# Altium integrated library Xilinx Spartan-3A.IntLib: 90 symbols (part 47 of 55)
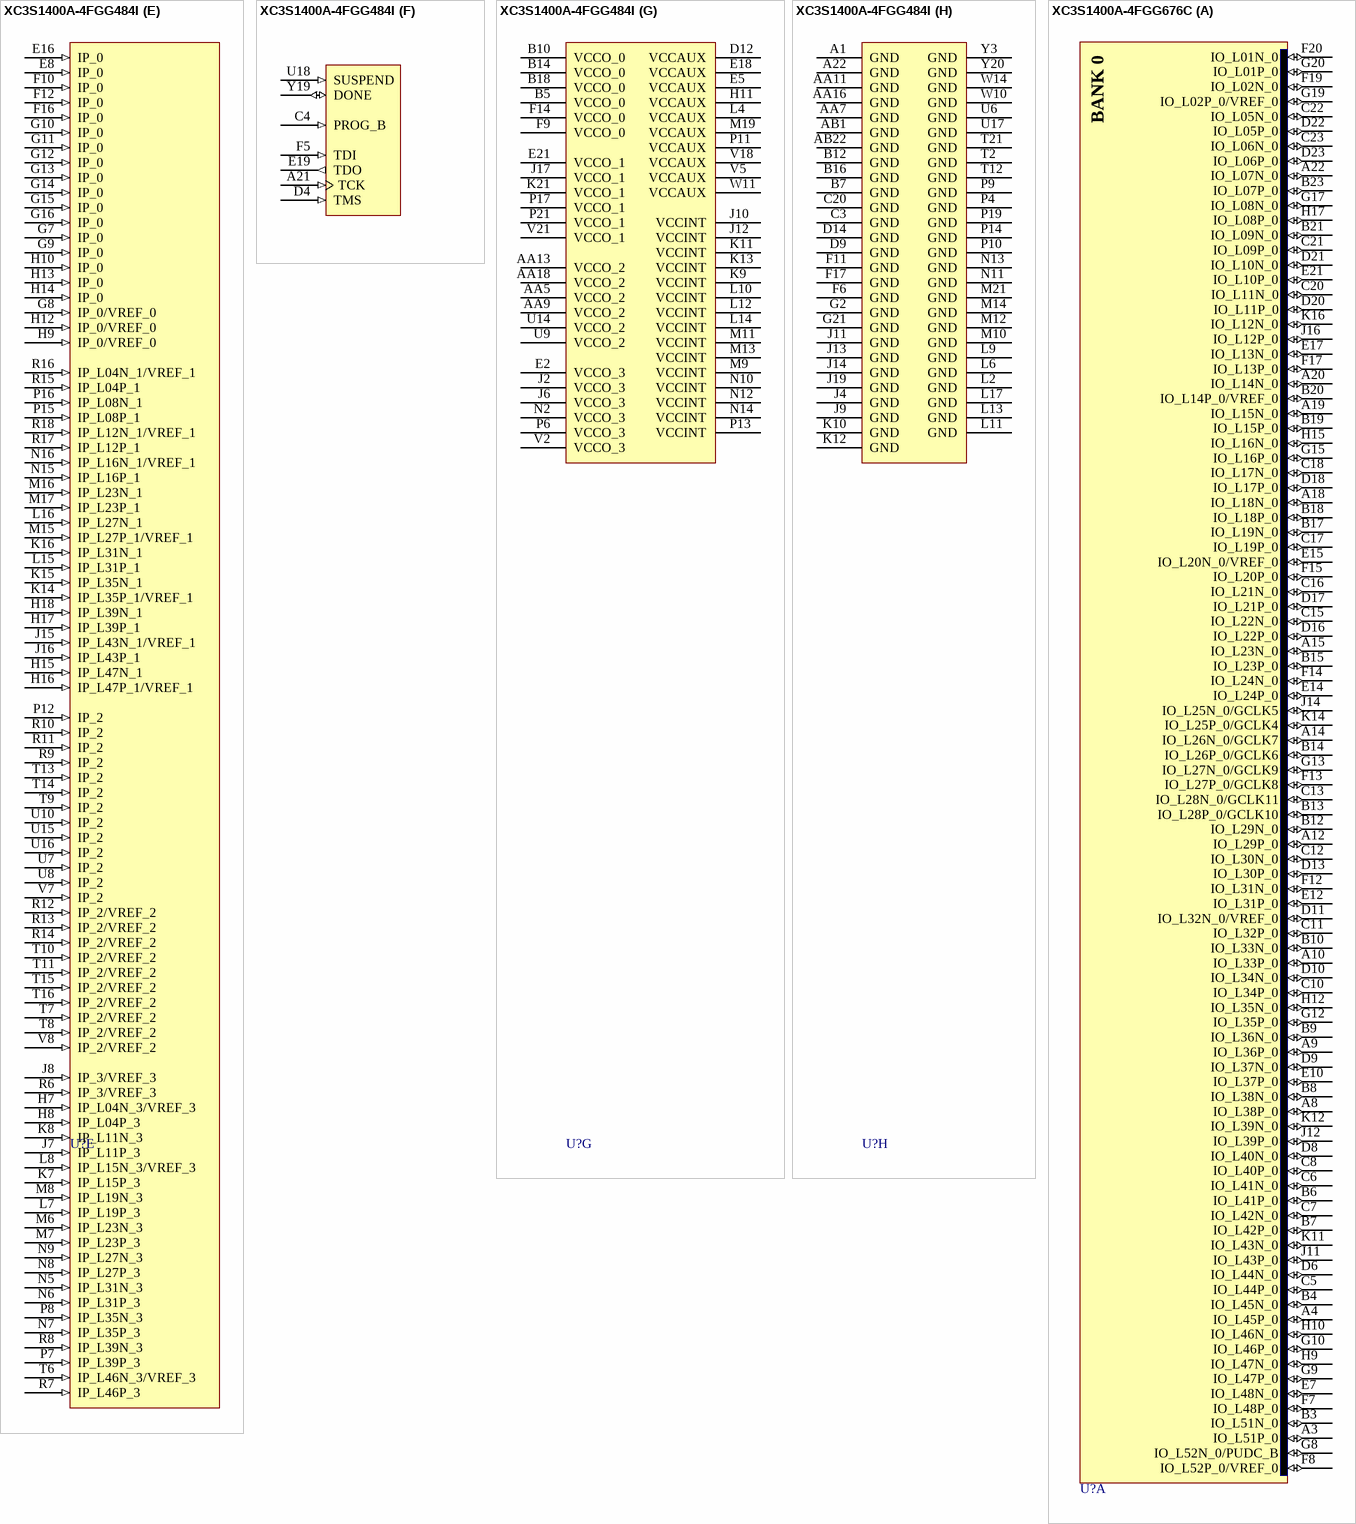
[diagram p141: symbols XC3S1400A-4FGG484I to XC3S1400A-4FGG676C]

## XC3S1400A-4FGG484I
designator U?
Spartan-3A I/O Optimized FPGA, 375 User I/Os, 484-Ball FBGA, Standard Performance, Industrial Grade, Pb-Free; Published: 12-Dec-2006; LatestRevisionDate: 24-Apr-2009; LatestRevisionNote: Updated to datasheet version 1.8 Mar-2009; DatasheetVersion: ver1.8, Mar-2009; PackageVersion: ver1.1, Dec-2008; PackageReference: FGG484; Publisher: Altium Limited; PackageDescription: 484-Ball Fine Pitch Ball Grid Array 1.00 mm Pitch (FGG484) - Pb-Free; Supplier 1: Digi-Key; Supplier Part Number 1: XC3S1400A-4FGG484I-ND; Code_JEDEC: MS-034-AAJ-1; Code_IPC: BGA100P22X22-484; ComponentLink1Description: Spartan-3A Datasheet; ComponentLink1URL: http://www.xilinx.com/support/documentation/data_sheets/ds529.pdf; ComponentLink2Description: FGG484 Package Drawing; ComponentLink2URL: http://www.xilinx.com/support/documentation/package_specs/fg484.pdf; ComponentLink3Description: Spartan-3A Documents; ComponentLink3URL: http://www.xilinx.com/support/documentation/spartan-3a.htm; ComponentLink4Description: Xilinx.com Home; ComponentLink4URL: http://www.xilinx.com
footprint FGG484 (BGA, 484-Leads, Body 23x23mm, Pitch 1mm)
signal-integrity model XC3S1400A_FGG484 (Spartan-3A)
part A pins: A2 IO_L36N_0/PUDC_B (io) "Dual-purpose pin used in some configuration modes, and then usually available as a user-I/O.", A3 IO_L33P_0 (io) "Unrestricted, general-purpose user-I/O pin.", A4 IO_L31P_0 (io) "Unrestricted, general-purpose user-I/O pin.", A5 IO_L28N_0 (io) "Unrestricted, general-purpose user-I/O pin.", A6 IO_L26N_0 (io) "Unrestricted, general-purpose user-I/O pin.", A7 IO_L26P_0 (io) "Unrestricted, general-purpose user-I/O pin.", A8 IO_L22N_0 (io) "Unrestricted, general-purpose user-I/O pin.", A9 IO_L22P_0 (io) "Unrestricted, general-purpose user-I/O pin.", A10 IO_L21P_0 (io) "Unrestricted, general-purpose user-I/O pin.", A11 IO_L18N_0/GCLK7 (io) "Either a user-I/O pin or a global clock input.", A12 IO_L18P_0/GCLK6 (io) "Either a user-I/O pin or a global clock input.", A13 IO_L16N_0 (io) "Unrestricted, general-purpose user-I/O pin.", A14 IO_L13N_0 (io) "Unrestricted, general-purpose user-I/O pin.", A15 IO_L12N_0/VREF_0 (io) "Dual-purpose pin that is either a user-I/O pin or provides a reference voltage input.", A16 IO_L12P_0 (io) "Unrestricted, general-purpose user-I/O pin.", A17 IO_L10N_0 (io) "Unrestricted, general-purpose user-I/O pin.", A18 IO_L05N_0 (io) "Unrestricted, general-purpose user-I/O pin.", A19 IO_L06N_0 (io) "Unrestricted, general-purpose user-I/O pin.", A20 IO_L03N_0 (io) "Unrestricted, general-purpose user-I/O pin.", B2 IO_L36P_0/VREF_0 (io) "Dual-purpose pin that is either a user-I/O pin or provides a reference voltage input.", B3 IO_L33N_0 (io) "Unrestricted, general-purpose user-I/O pin.", B4 IO_L31N_0 (io) "Unrestricted, general-purpose user-I/O pin.", B6 IO_L28P_0 (io) "Unrestricted, general-purpose user-I/O pin.", B8 IO_L25P_0 (io) "Unrestricted, general-purpose user-I/O pin.", B9 IO_L24P_0 (io) "Unrestricted, general-purpose user-I/O pin.", B11 IO_L19P_0/GCLK8 (io) "Either a user-I/O pin or a global clock input.", B13 IO_L16P_0 (io) "Unrestricted, general-purpose user-I/O pin.", B15 IO_L13P_0 (io) "Unrestricted, general-purpose user-I/O pin.", B17 IO_L10P_0 (io) "Unrestricted, general-purpose user-I/O pin.", B19 IO_L06P_0/VREF_0 (io) "Dual-purpose pin that is either a user-I/O pin or provides a reference voltage input.", B20 IO_L03P_0 (io) "Unrestricted, general-purpose user-I/O pin.", C5 IO_L32P_0 (io) "Unrestricted, general-purpose user-I/O pin.", C6 IO_L29P_0 (io) "Unrestricted, general-purpose user-I/O pin.", C7 IO_L27N_0 (io) "Unrestricted, general-purpose user-I/O pin.", C8 IO_L25N_0 (io) "Unrestricted, general-purpose user-I/O pin.", C9 IO_L24N_0/VREF_0 (io) "Dual-purpose pin that is either a user-I/O pin or provides a reference voltage input.", C10 IO_L21N_0 (io) "Unrestricted, general-purpose user-I/O pin.", C11 IO_L19N_0/GCLK9 (io) "Either a user-I/O pin or a global clock input.", C12 IO_L17P_0/GCLK4 (io) "Either a user-I/O pin or a global clock input.", C13 IO_L15N_0 (io) "Unrestricted, general-purpose user-I/O pin.", C14 IO_L09P_0 (io) "Unrestricted, general-purpose user-I/O pin.", C15 IO_L11N_0 (io) "Unrestricted, general-purpose user-I/O pin.", C16 IO_L08N_0 (io) "Unrestricted, general-purpose user-I/O pin.", C17 IO_L07N_0 (io) "Unrestricted, general-purpose user-I/O pin.", C18 IO_L05P_0 (io) "Unrestricted, general-purpose user-I/O pin.", C19 IO_L02N_0 (io) "Unrestricted, general-purpose user-I/O pin.", D5 IO_L32N_0 (io) "Unrestricted, general-purpose user-I/O pin.", D6 IO_L29N_0 (io) "Unrestricted, general-purpose user-I/O pin.", D7 IO_L27P_0 (io) "Unrestricted, general-purpose user-I/O pin.", D8 IO_L30N_0 (io) "Unrestricted, general-purpose user-I/O pin.", D10 IO_L23P_0 (io) "Unrestricted, general-purpose user-I/O pin.", D11 IO_L20P_0/GCLK10 (io) "Either a user-I/O pin or a global clock input.", D13 IO_L15P_0 (io) "Unrestricted, general-purpose user-I/O pin.", D15 IO_L11P_0 (io) "Unrestricted, general-purpose user-I/O pin.", D16 IO_L08P_0 (io) "Unrestricted, general-purpose user-I/O pin.", D17 IO_L07P_0 (io) "Unrestricted, general-purpose user-I/O pin.", D18 IO_L01N_0 (io) "Unrestricted, general-purpose user-I/O pin.", D19 IO_L02P_0/VREF_0 (io) "Dual-purpose pin that is either a user-I/O pin or provides a reference voltage input.", E6 IO_L35N_0 (io) "Unrestricted, general-purpose user-I/O pin.", E7 IO_L34P_0 (io) "Unrestricted, general-purpose user-I/O pin.", E9 IO_L30P_0 (io) "Unrestricted, general-purpose user-I/O pin.", E10 IO_L23N_0 (io) "Unrestricted, general-purpose user-I/O pin.", E11 IO_L20N_0/GCLK11 (io) "Either a user-I/O pin or a global clock input.", E12 IO_L17N_0/GCLK5 (io) "Either a user-I/O pin or a global clock input.", E13 IO_L14N_0 (io) "Unrestricted, general-purpose user-I/O pin.", E14 IO_L09N_0 (io) "Unrestricted, general-purpose user-I/O pin.", E15 IO_L04P_0 (io) "Unrestricted, general-purpose user-I/O pin.", E17 IO_L01P_0 (io) "Unrestricted, general-purpose user-I/O pin.", F7 IO_L35P_0 (io) "Unrestricted, general-purpose user-I/O pin.", F8 IO_L34N_0 (io) "Unrestricted, general-purpose user-I/O pin.", F13 IO_L14P_0 (io) "Unrestricted, general-purpose user-I/O pin.", F15 IO_L04N_0 (io) "Unrestricted, general-purpose user-I/O pin."
part B pins: AA22 IO_L01P_1/HDC (io) "Dual-purpose pin used in some configuration modes, and then usually available as a user-I/O.", B21 IO_L45N_1/A23 (io) "Dual-purpose pin used in some configuration modes, and then usually available as a user-I/O.", B22 IO_L45P_1/A22 (io) "Dual-purpose pin used in some configuration modes, and then usually available as a user-I/O.", C21 IO_L44N_1/A21 (io) "Dual-purpose pin used in some configuration modes, and then usually available as a user-I/O.", C22 IO_L44P_1/A20 (io) "Dual-purpose pin used in some configuration modes, and then usually available as a user-I/O.", D20 IO_L42N_1 (io) "Unrestricted, general-purpose user-I/O pin.", D21 IO_L42P_1 (io) "Unrestricted, general-purpose user-I/O pin.", D22 IO_L41N_1 (io) "Unrestricted, general-purpose user-I/O pin.", E20 IO_L38P_1 (io) "Unrestricted, general-purpose user-I/O pin.", E22 IO_L41P_1 (io) "Unrestricted, general-purpose user-I/O pin.", F18 IO_L40N_1 (io) "Unrestricted, general-purpose user-I/O pin.", F19 IO_L40P_1 (io) "Unrestricted, general-purpose user-I/O pin.", F20 IO_L38N_1 (io) "Unrestricted, general-purpose user-I/O pin.", F21 IO_L34N_1/A19 (io) "Dual-purpose pin used in some configuration modes, and then usually available as a user-I/O.", F22 IO_L34P_1/A18 (io) "Dual-purpose pin used in some configuration modes, and then usually available as a user-I/O.", G17 IO_L46N_1/A25 (io) "Dual-purpose pin used in some configuration modes, and then usually available as a user-I/O.", G18 IO_L46P_1/A24 (io) "Dual-purpose pin used in some configuration modes, and then usually available as a user-I/O.", G19 IO_L36P_1 (io) "Unrestricted, general-purpose user-I/O pin.", G20 IO_L36N_1 (io) "Unrestricted, general-purpose user-I/O pin.", G22 IO_L30N_1/A15 (io) "Dual-purpose pin used in some configuration modes, and then usually available as a user-I/O.", H19 IO_L37N_1 (io) "Unrestricted, general-purpose user-I/O pin.", H20 IO_L33N_1/A17 (io) "Dual-purpose pin used in some configuration modes, and then usually available as a user-I/O.", H21 IO_L33P_1/A16 (io) "Dual-purpose pin used in some configuration modes, and then usually available as a user-I/O.", H22 IO_L30P_1/A14 (io) "Dual-purpose pin used in some configuration modes, and then usually available as a user-I/O.", J18 IO_L37P_1 (io) "Unrestricted, general-purpose user-I/O pin.", J20 IO_L29N_1/A13 (io) "Dual-purpose pin used in some configuration modes, and then usually available as a user-I/O.", J21 IO_L29P_1/A12 (io) "Dual-purpose pin used in some configuration modes, and then usually available as a user-I/O.", J22 IO_L26N_1/A11 (io) "Dual-purpose pin used in some configuration modes, and then usually available as a user-I/O.", K17 IO_L32P_1 (io) "Unrestricted, general-purpose user-I/O pin.", K18 IO_L32N_1 (io) "Unrestricted, general-purpose user-I/O pin.", K19 IO_L25N_1/RHCLK7 (io) "Either a user-I/O pin or a global clock input for right half of device.", K20 IO_L25P_1/IRDY1/RHCLK6 (io) "Either a user-I/O pin or a global clock input for right half of device.", K22 IO_L26P_1/A10 (io) "Dual-purpose pin used in some configuration modes, and then usually available as a user-I/O.", L18 IO_L28P_1 (io) "Unrestricted, general-purpose user-I/O pin.", L19 IO_L28N_1 (io) "Unrestricted, general-purpose user-I/O pin.", L20 IO_L22N_1/TRDY1/RHCLK3 (io) "Either a user-I/O pin or a global clock input for right half of device.", L21 IO_L22P_1/RHCLK2 (io) "Either a user-I/O pin or a global clock input for right half of device.", L22 IO_L21N_1/RHCLK1 (io) "Either a user-I/O pin or a global clock input for right half of device.", M18 IO_L24P_1/RHCLK4 (io) "Either a user-I/O pin or a global clock input for right half of device.", M20 IO_L24N_1/RHCLK5 (io) "Either a user-I/O pin or a global clock input for right half of device.", M22 IO_L21P_1/RHCLK0 (io) "Either a user-I/O pin or a global clock input for right half of device.", N17 IO_L20N_1/A9 (io) "Dual-purpose pin used in some configuration modes, and then usually available as a user-I/O.", N18 IO_L20P_1/A8 (io) "Dual-purpose pin used in some configuration modes, and then usually available as a user-I/O.", N19 IO_L19N_1/A7 (io) "Dual-purpose pin used in some configuration modes, and then usually available as a user-I/O.", N20 IO_L19P_1/A6 (io) "Dual-purpose pin used in some configuration modes, and then usually available as a user-I/O.", N21 IO_L18N_1/A5 (io) "Dual-purpose pin used in some configuration modes, and then usually available as a user-I/O.", N22 IO_L18P_1/A4 (io) "Dual-purpose pin used in some configuration modes, and then usually available as a user-I/O.", P18 IO_L17N_1/A3 (io) "Dual-purpose pin used in some configuration modes, and then usually available as a user-I/O.", P20 IO_L15P_1 (io) "Unrestricted, general-purpose user-I/O pin.", P22 IO_L15N_1/VREF_1 (io) "Dual-purpose pin that is either a user-I/O pin or provides a reference voltage input.", R19 IO_L17P_1/A2 (io) "Dual-purpose pin used in some configuration modes, and then usually available as a user-I/O.", R20 IO_L13P_1 (io) "Unrestricted, general-purpose user-I/O pin.", R21 IO_L14P_1 (io) "Unrestricted, general-purpose user-I/O pin.", R22 IO_L14N_1 (io) "Unrestricted, general-purpose user-I/O pin.", T17 IO_L03P_1/A0 (io) "Dual-purpose pin used in some configuration modes, and then usually available as a user-I/O.", T18 IO_L03N_1/A1 (io) "Dual-purpose pin used in some configuration modes, and then usually available as a user-I/O.", T19 IO_L13N_1 (io) "Unrestricted, general-purpose user-I/O pin.", T20 IO_L11P_1 (io) "Unrestricted, general-purpose user-I/O pin.", T22 IO_L11N_1 (io) "Unrestricted, general-purpose user-I/O pin.", U19 IO_L10N_1 (io) "Unrestricted, general-purpose user-I/O pin.", U20 IO_L10P_1 (io) "Unrestricted, general-purpose user-I/O pin.", U21 IO_L09N_1 (io) "Unrestricted, general-purpose user-I/O pin.", U22 IO_L09P_1 (io) "Unrestricted, general-purpose user-I/O pin.", V19 IO_L06P_1 (io) "Unrestricted, general-purpose user-I/O pin.", V20 IO_L06N_1 (io) "Unrestricted, general-purpose user-I/O pin.", V22 IO_L07N_1 (io) "Unrestricted, general-purpose user-I/O pin.", W19 IO_L02P_1/LDC1 (io) "Dual-purpose pin used in some configuration modes, and then usually available as a user-I/O.", W20 IO_L02N_1/LDC0 (io) "Dual-purpose pin used in some configuration modes, and then usually available as a user-I/O.", W21 IO_L05N_1 (io) "Unrestricted, general-purpose user-I/O pin.", W22 IO_L07P_1 (io) "Unrestricted, general-purpose user-I/O pin.", Y21 IO_L01N_1/LDC2 (io) "Dual-purpose pin used in some configuration modes, and then usually available as a user-I/O.", Y22 IO_L05P_1 (io) "Unrestricted, general-purpose user-I/O pin."
part C pins: AA3 IO_L03N_2 (io) "Unrestricted, general-purpose user-I/O pin.", AA4 IO_L04N_2 (io) "Unrestricted, general-purpose user-I/O pin.", AA6 IO_L08P_2 (io) "Unrestricted, general-purpose user-I/O pin.", AA8 IO_L12P_2 (io) "Unrestricted, general-purpose user-I/O pin.", AA10 IO_L15P_2 (io) "Unrestricted, general-purpose user-I/O pin.", AA12 IO_L19P_2/GCLK0 (io) "Either a user-I/O pin or a global clock input.", AA14 IO_L22P_2 (io) "Unrestricted, general-purpose user-I/O pin.", AA15 IO_L24N_2/DOUT (io) "Dual-purpose pin used in some configuration modes, and then usually available as a user-I/O.", AA17 IO_L28P_2/D2 (io) "Dual-purpose pin used in some configuration modes, and then usually available as a user-I/O.", AA19 IO_L32N_2 (io) "Unrestricted, general-purpose user-I/O pin.", AA20 IO_L36N_2/CCLK (io) "Dual-purpose pin used in some configuration modes, and then usually available as a user-I/O.", AA21 IO_L35N_2 (io) "Unrestricted, general-purpose user-I/O pin.", AB2 IO_L03P_2 (io) "Unrestricted, general-purpose user-I/O pin.", AB3 IO_L04P_2 (io) "Unrestricted, general-purpose user-I/O pin.", AB4 IO_L06P_2 (io) "Unrestricted, general-purpose user-I/O pin.", AB5 IO_L06N_2 (io) "Unrestricted, general-purpose user-I/O pin.", AB6 IO_L08N_2 (io) "Unrestricted, general-purpose user-I/O pin.", AB7 IO_L10N_2 (io) "Unrestricted, general-purpose user-I/O pin.", AB8 IO_L12N_2 (io) "Unrestricted, general-purpose user-I/O pin.", AB9 IO_L14N_2/D6 (io) "Dual-purpose pin used in some configuration modes, and then usually available as a user-I/O.", AB10 IO_L15N_2 (io) "Unrestricted, general-purpose user-I/O pin.", AB11 IO_L16N_2/D4 (io) "Dual-purpose pin used in some configuration modes, and then usually available as a user-I/O.", AB12 IO_L19N_2/GCLK1 (io) "Either a user-I/O pin or a global clock input.", AB13 IO_L21P_2 (io) "Unrestricted, general-purpose user-I/O pin.", AB14 IO_L22N_2/MOSI/CSI_B (io) "Dual-purpose pin used in some configuration modes, and then usually available as a user-I/O.", AB15 IO_L24P_2/AWAKE (io) "Dual-Purpose pin. Used for the power-saving Suspend mode and user-I/O.", AB16 IO_L27P_2 (io) "Unrestricted, general-purpose user-I/O pin.", AB17 IO_L29P_2 (io) "Unrestricted, general-purpose user-I/O pin.", AB18 IO_L29N_2 (io) "Unrestricted, general-purpose user-I/O pin.", AB19 IO_L32P_2 (io) "Unrestricted, general-purpose user-I/O pin.", AB20 IO_L36P_2/D0/DIN/MISO (io) "Dual-purpose pin used in some configuration modes, and then usually available as a user-I/O.", AB21 IO_L35P_2 (io) "Unrestricted, general-purpose user-I/O pin.", U11 IO_L17P_2/GCLK12 (io) "Either a user-I/O pin or a global clock input.", U12 IO_L20N_2/GCLK3 (io) "Either a user-I/O pin or a global clock input.", U13 IO_L26N_2/D3 (io) "Dual-purpose pin used in some configuration modes, and then usually available as a user-I/O.", V6 IO_L01P_2/M1 (io) "Dual-purpose pin used in some configuration modes, and then usually available as a user-I/O.", V9 IO_L09P_2/RDWR_B (io) "Dual-purpose pin used in some configuration modes, and then usually available as a user-I/O.", V10 IO_L13P_2 (io) "Unrestricted, general-purpose user-I/O pin.", V11 IO_L17N_2/GCLK13 (io) "Either a user-I/O pin or a global clock input.", V12 IO_L20P_2/GCLK2 (io) "Either a user-I/O pin or a global clock input.", V13 IO_L26P_2/INIT_B (io) "Dual-purpose pin used in some configuration modes, and then usually available as a user-I/O.", V14 IO_L30P_2 (io) "Unrestricted, general-purpose user-I/O pin.", V15 IO_L30N_2 (io) "Unrestricted, general-purpose user-I/O pin.", V16 IO_L31N_2 (io) "Unrestricted, general-purpose user-I/O pin.", V17 IO_L33N_2 (io) "Unrestricted, general-purpose user-I/O pin.", W4 IO_L02P_2/M2 (io) "Dual-purpose pin used in some configuration modes, and then usually available as a user-I/O.", W5 IO_L01N_2/M0 (io) "Dual-purpose pin used in some configuration modes, and then usually available as a user-I/O.", W6 IO_L05P_2 (io) "Unrestricted, general-purpose user-I/O pin.", W7 IO_L07P_2 (io) "Unrestricted, general-purpose user-I/O pin.", W8 IO_L11P_2/VS1 (io) "Dual-purpose pin used in some configuration modes, and then usually available as a user-I/O.", W9 IO_L09N_2/VS2 (io) "Dual-purpose pin used in some configuration modes, and then usually available as a user-I/O.", W12 IO_L18P_2/GCLK14 (io) "Either a user-I/O pin or a global clock input.", W13 IO_L23P_2 (io) "Unrestricted, general-purpose user-I/O pin.", W15 IO_L25P_2 (io) "Unrestricted, general-purpose user-I/O pin.", W16 IO_L31P_2 (io) "Unrestricted, general-purpose user-I/O pin.", W17 IO_L34N_2 (io) "Unrestricted, general-purpose user-I/O pin.", W18 IO_L33P_2 (io) "Unrestricted, general-purpose user-I/O pin.", Y4 IO_L02N_2/CSO_B (io) "Dual-purpose pin used in some configuration modes, and then usually available as a user-I/O.", Y5 IO_L05N_2 (io) "Unrestricted, general-purpose user-I/O pin.", Y6 IO_L07N_2 (io) "Unrestricted, general-purpose user-I/O pin.", Y7 IO_L10P_2 (io) "Unrestricted, general-purpose user-I/O pin.", Y8 IO_L11N_2/VS0 (io) "Dual-purpose pin used in some configuration modes, and then usually available as a user-I/O.", Y9 IO_L14P_2/D7 (io) "Dual-purpose pin used in some configuration modes, and then usually available as a user-I/O.", Y10 IO_L13N_2 (io) "Unrestricted, general-purpose user-I/O pin.", Y11 IO_L16P_2/D5 (io) "Dual-purpose pin used in some configuration modes, and then usually available as a user-I/O.", Y12 IO_L18N_2/GCLK15 (io) "Either a user-I/O pin or a global clock input.", Y13 IO_L21N_2 (io) "Unrestricted, general-purpose user-I/O pin.", Y14 IO_L23N_2 (io) "Unrestricted, general-purpose user-I/O pin.", Y15 IO_L25N_2 (io) "Unrestricted, general-purpose user-I/O pin.", Y16 IO_L27N_2 (io) "Unrestricted, general-purpose user-I/O pin.", Y17 IO_L28N_2/D1 (io) "Dual-purpose pin used in some configuration modes, and then usually available as a user-I/O.", Y18 IO_L34P_2 (io) "Unrestricted, general-purpose user-I/O pin."
part D pins: AA1 IO_L45P_3 (io) "Unrestricted, general-purpose user-I/O pin.", AA2 IO_L45N_3 (io) "Unrestricted, general-purpose user-I/O pin.", B1 IO_L02P_3 (io) "Unrestricted, general-purpose user-I/O pin.", C1 IO_L01P_3 (io) "Unrestricted, general-purpose user-I/O pin.", C2 IO_L02N_3 (io) "Unrestricted, general-purpose user-I/O pin.", D1 IO_L06P_3 (io) "Unrestricted, general-purpose user-I/O pin.", D2 IO_L01N_3 (io) "Unrestricted, general-purpose user-I/O pin.", D3 IO_L03P_3 (io) "Unrestricted, general-purpose user-I/O pin.", E1 IO_L06N_3 (io) "Unrestricted, general-purpose user-I/O pin.", E3 IO_L07N_3 (io) "Unrestricted, general-purpose user-I/O pin.", E4 IO_L03N_3 (io) "Unrestricted, general-purpose user-I/O pin.", F1 IO_L12N_3 (io) "Unrestricted, general-purpose user-I/O pin.", F2 IO_L12P_3 (io) "Unrestricted, general-purpose user-I/O pin.", F3 IO_L08P_3 (io) "Unrestricted, general-purpose user-I/O pin.", F4 IO_L07P_3 (io) "Unrestricted, general-purpose user-I/O pin.", G1 IO_L13N_3 (io) "Unrestricted, general-purpose user-I/O pin.", G3 IO_L13P_3 (io) "Unrestricted, general-purpose user-I/O pin.", G4 IO_L08N_3 (io) "Unrestricted, general-purpose user-I/O pin.", G5 IO_L05N_3 (io) "Unrestricted, general-purpose user-I/O pin.", G6 IO_L05P_3 (io) "Unrestricted, general-purpose user-I/O pin.", H1 IO_L16N_3 (io) "Unrestricted, general-purpose user-I/O pin.", H2 IO_L16P_3 (io) "Unrestricted, general-purpose user-I/O pin.", H3 IO_L14N_3 (io) "Unrestricted, general-purpose user-I/O pin.", H4 IO_L14P_3 (io) "Unrestricted, general-purpose user-I/O pin.", H5 IO_L09P_3 (io) "Unrestricted, general-purpose user-I/O pin.", H6 IO_L09N_3 (io) "Unrestricted, general-purpose user-I/O pin.", J1 IO_L17N_3/VREF_3 (io) "Dual-purpose pin that is either a user-I/O pin or provides a reference voltage input.", J3 IO_L17P_3 (io) "Unrestricted, general-purpose user-I/O pin.", J5 IO_L10N_3 (io) "Unrestricted, general-purpose user-I/O pin.", K1 IO_L22P_3/LHCLK2 (io) "Either a user-I/O pin or a global clock input for left half of device.", K2 IO_L20N_3 (io) "Unrestricted, general-purpose user-I/O pin.", K3 IO_L20P_3 (io) "Unrestricted, general-purpose user-I/O pin.", K4 IO_L18N_3 (io) "Unrestricted, general-purpose user-I/O pin.", K5 IO_L18P_3 (io) "Unrestricted, general-purpose user-I/O pin.", K6 IO_L10P_3 (io) "Unrestricted, general-purpose user-I/O pin.", L1 IO_L22N_3/IRDY2/LHCLK3 (io) "Either a user-I/O pin or a global clock input for left half of device.", L3 IO_L21N_3/LHCLK1 (io) "Either a user-I/O pin or a global clock input for left half of device.", L5 IO_L21P_3/LHCLK0 (io) "Either a user-I/O pin or a global clock input for left half of device.", M1 IO_L24P_3/LHCLK4 (io) "Either a user-I/O pin or a global clock input for left half of device.", M2 IO_L24N_3/LHCLK5 (io) "Either a user-I/O pin or a global clock input for left half of device.", M3 IO_L25P_3/TRDY2/LHCLK6 (io) "Either a user-I/O pin or a global clock input for left half of device.", M4 IO_L25N_3/LHCLK7 (io) "Either a user-I/O pin or a global clock input for left half of device.", M5 IO_L30P_3 (io) "Unrestricted, general-purpose user-I/O pin.", N1 IO_L26P_3/VREF_3 (io) "Dual-purpose pin that is either a user-I/O pin or provides a reference voltage input.", N3 IO_L26N_3 (io) "Unrestricted, general-purpose user-I/O pin.", N4 IO_L30N_3 (io) "Unrestricted, general-purpose user-I/O pin.", P1 IO_L28P_3 (io) "Unrestricted, general-purpose user-I/O pin.", P2 IO_L28N_3 (io) "Unrestricted, general-purpose user-I/O pin.", P3 IO_L29P_3 (io) "Unrestricted, general-purpose user-I/O pin.", P5 IO_L29N_3 (io) "Unrestricted, general-purpose user-I/O pin.", R1 IO_L32P_3 (io) "Unrestricted, general-purpose user-I/O pin.", R2 IO_L32N_3 (io) "Unrestricted, general-purpose user-I/O pin.", R3 IO_L33P_3 (io) "Unrestricted, general-purpose user-I/O pin.", R4 IO_L33N_3 (io) "Unrestricted, general-purpose user-I/O pin.", R5 IO_L34P_3 (io) "Unrestricted, general-purpose user-I/O pin.", T1 IO_L36P_3/VREF_3 (io) "Dual-purpose pin that is either a user-I/O pin or provides a reference voltage input.", T3 IO_L36N_3 (io) "Unrestricted, general-purpose user-I/O pin.", T4 IO_L34N_3 (io) "Unrestricted, general-purpose user-I/O pin.", T5 IO_L40P_3 (io) "Unrestricted, general-purpose user-I/O pin.", U1 IO_L37P_3 (io) "Unrestricted, general-purpose user-I/O pin.", U2 IO_L37N_3 (io) "Unrestricted, general-purpose user-I/O pin.", U3 IO_L41P_3 (io) "Unrestricted, general-purpose user-I/O pin.", U4 IO_L41N_3 (io) "Unrestricted, general-purpose user-I/O pin.", U5 IO_L40N_3 (io) "Unrestricted, general-purpose user-I/O pin.", V1 IO_L38P_3 (io) "Unrestricted, general-purpose user-I/O pin.", V3 IO_L38N_3 (io) "Unrestricted, general-purpose user-I/O pin.", V4 IO_L43P_3 (io) "Unrestricted, general-purpose user-I/O pin.", W1 IO_L42P_3 (io) "Unrestricted, general-purpose user-I/O pin.", W2 IO_L42N_3 (io) "Unrestricted, general-purpose user-I/O pin.", W3 IO_L43N_3 (io) "Unrestricted, general-purpose user-I/O pin.", Y1 IO_L44P_3 (io) "Unrestricted, general-purpose user-I/O pin.", Y2 IO_L44N_3 (io) "Unrestricted, general-purpose user-I/O pin."
part E pins: E8 IP_0 (in) "Unrestricted, general-purpose input-only pin.", E16 IP_0 (in) "Unrestricted, general-purpose input-only pin.", F10 IP_0 (in) "Unrestricted, general-purpose input-only pin.", F12 IP_0 (in) "Unrestricted, general-purpose input-only pin.", F16 IP_0 (in) "Unrestricted, general-purpose input-only pin.", G7 IP_0 (in) "Unrestricted, general-purpose input-only pin.", G8 IP_0/VREF_0 (in) "Dual-purpose pin that is either a Input-only pin, or provides a reference voltage input.", G9 IP_0 (in) "Unrestricted, general-purpose input-only pin.", G10 IP_0 (in) "Unrestricted, general-purpose input-only pin.", G11 IP_0 (in) "Unrestricted, general-purpose input-only pin.", G12 IP_0 (in) "Unrestricted, general-purpose input-only pin.", G13 IP_0 (in) "Unrestricted, general-purpose input-only pin.", G14 IP_0 (in) "Unrestricted, general-purpose input-only pin.", G15 IP_0 (in) "Unrestricted, general-purpose input-only pin.", G16 IP_0 (in) "Unrestricted, general-purpose input-only pin.", H7 IP_L04N_3/VREF_3 (in) "Dual-purpose pin that is either a Input-only pin, or provides a reference voltage input.", H8 IP_L04P_3 (in) "Unrestricted, general-purpose input-only pin.", H9 IP_0/VREF_0 (in) "Dual-purpose pin that is either a Input-only pin, or provides a reference voltage input.", H10 IP_0 (in) "Unrestricted, general-purpose input-only pin.", H12 IP_0/VREF_0 (in) "Dual-purpose pin that is either a Input-only pin, or provides a reference voltage input.", H13 IP_0 (in) "Unrestricted, general-purpose input-only pin.", H14 IP_0 (in) "Unrestricted, general-purpose input-only pin.", H15 IP_L47N_1 (in) "Unrestricted, general-purpose input-only pin.", H16 IP_L47P_1/VREF_1 (in) "Dual-purpose pin that is either a Input-only pin, or provides a reference voltage input.", H17 IP_L39P_1 (in) "Unrestricted, general-purpose input-only pin.", H18 IP_L39N_1 (in) "Unrestricted, general-purpose input-only pin.", J7 IP_L11P_3 (in) "Unrestricted, general-purpose input-only pin.", J8 IP_3/VREF_3 (in) "Dual-purpose pin that is either a Input-only pin, or provides a reference voltage input.", J15 IP_L43N_1/VREF_1 (in) "Dual-purpose pin that is either a Input-only pin, or provides a reference voltage input.", J16 IP_L43P_1 (in) "Unrestricted, general-purpose input-only pin.", K7 IP_L15P_3 (in) "Unrestricted, general-purpose input-only pin.", K8 IP_L11N_3 (in) "Unrestricted, general-purpose input-only pin.", K14 IP_L35P_1/VREF_1 (in) "Dual-purpose pin that is either a Input-only pin, or provides a reference voltage input.", K15 IP_L35N_1 (in) "Unrestricted, general-purpose input-only pin.", K16 IP_L31N_1 (in) "Unrestricted, general-purpose input-only pin.", L7 IP_L19P_3 (in) "Unrestricted, general-purpose input-only pin.", L8 IP_L15N_3/VREF_3 (in) "Dual-purpose pin that is either a Input-only pin, or provides a reference voltage input.", L15 IP_L31P_1 (in) "Unrestricted, general-purpose input-only pin.", L16 IP_L27N_1 (in) "Unrestricted, general-purpose input-only pin.", M6 IP_L23N_3 (in) "Unrestricted, general-purpose input-only pin.", M7 IP_L23P_3 (in) "Unrestricted, general-purpose input-only pin.", M8 IP_L19N_3 (in) "Unrestricted, general-purpose input-only pin.", M15 IP_L27P_1/VREF_1 (in) "Dual-purpose pin that is either a Input-only pin, or provides a reference voltage input.", M16 IP_L23N_1 (in) "Unrestricted, general-purpose input-only pin.", M17 IP_L23P_1 (in) "Unrestricted, general-purpose input-only pin.", N5 IP_L31N_3 (in) "Unrestricted, general-purpose input-only pin.", N6 IP_L31P_3 (in) "Unrestricted, general-purpose input-only pin.", N7 IP_L35P_3 (in) "Unrestricted, general-purpose input-only pin.", N8 IP_L27P_3 (in) "Unrestricted, general-purpose input-only pin.", N9 IP_L27N_3 (in) "Unrestricted, general-purpose input-only pin.", N15 IP_L16P_1 (in) "Unrestricted, general-purpose input-only pin.", N16 IP_L16N_1/VREF_1 (in) "Dual-purpose pin that is either a Input-only pin, or provides a reference voltage input.", P7 IP_L39P_3 (in) "Unrestricted, general-purpose input-only pin.", P8 IP_L35N_3 (in) "Unrestricted, general-purpose input-only pin.", P12 IP_2 (in) "Unrestricted, general-purpose input-only pin.", P15 IP_L08P_1 (in) "Unrestricted, general-purpose input-only pin.", P16 IP_L08N_1 (in) "Unrestricted, general-purpose input-only pin.", R6 IP_3/VREF_3 (in) "Dual-purpose pin that is either a Input-only pin, or provides a reference voltage input.", R7 IP_L46P_3 (in) "Unrestricted, general-purpose input-only pin.", R8 IP_L39N_3 (in) "Unrestricted, general-purpose input-only pin.", R9 IP_2 (in) "Unrestricted, general-purpose input-only pin.", R10 IP_2 (in) "Unrestricted, general-purpose input-only pin.", R11 IP_2 (in) "Unrestricted, general-purpose input-only pin.", R12 IP_2/VREF_2 (in) "Dual-purpose pin that is either a Input-only pin, or provides a reference voltage input.", R13 IP_2/VREF_2 (in) "Dual-purpose pin that is either a Input-only pin, or provides a reference voltage input.", R14 IP_2/VREF_2 (in) "Dual-purpose pin that is either a Input-only pin, or provides a reference voltage input.", R15 IP_L04P_1 (in) "Unrestricted, general-purpose input-only pin.", R16 IP_L04N_1/VREF_1 (in) "Dual-purpose pin that is either a Input-only pin, or provides a reference voltage input.", R17 IP_L12P_1 (in) "Unrestricted, general-purpose input-only pin.", R18 IP_L12N_1/VREF_1 (in) "Dual-purpose pin that is either a Input-only pin, or provides a reference voltage input.", T6 IP_L46N_3/VREF_3 (in) "Dual-purpose pin that is either a Input-only pin, or provides a reference voltage input.", T7 IP_2/VREF_2 (in) "Dual-purpose pin that is either a Input-only pin, or provides a reference voltage input.", T8 IP_2/VREF_2 (in) "Dual-purpose pin that is either a Input-only pin, or provides a reference voltage input.", T9 IP_2 (in) "Unrestricted, general-purpose input-only pin.", T10 IP_2/VREF_2 (in) "Dual-purpose pin that is either a Input-only pin, or provides a reference voltage input.", T11 IP_2/VREF_2 (in) "Dual-purpose pin that is either a Input-only pin, or provides a reference voltage input.", T13 IP_2 (in) "Unrestricted, general-purpose input-only pin.", T14 IP_2 (in) "Unrestricted, general-purpose input-only pin.", T15 IP_2/VREF_2 (in) "Dual-purpose pin that is either a Input-only pin, or provides a reference voltage input.", T16 IP_2/VREF_2 (in) "Dual-purpose pin that is either a Input-only pin, or provides a reference voltage input.", U7 IP_2 (in) "Unrestricted, general-purpose input-only pin.", U8 IP_2 (in) "Unrestricted, general-purpose input-only pin.", U10 IP_2 (in) "Unrestricted, general-purpose input-only pin.", U15 IP_2 (in) "Unrestricted, general-purpose input-only pin.", U16 IP_2 (in) "Unrestricted, general-purpose input-only pin.", V7 IP_2 (in) "Unrestricted, general-purpose input-only pin.", V8 IP_2/VREF_2 (in) "Dual-purpose pin that is either a Input-only pin, or provides a reference voltage input."
part F pins: A21 TCK (in) "Dedicated JTAG pin.", C4 PROG_B (in) "Dedicated configuration pin.", D4 TMS (in) "Dedicated JTAG pin.", E19 TDO (out) "Dedicated JTAG pin.", F5 TDI (in) "Dedicated JTAG pin.", U18 SUSPEND (in) "Dedicated pin for the power-saving Suspend mode.", Y19 DONE (io) "Dedicated configuration pin."
part G pins: AA5 VCCO_2 (power) "Supplies power to the output buffers within the I/O bank.", AA9 VCCO_2 (power) "Supplies power to the output buffers within the I/O bank.", AA13 VCCO_2 (power) "Supplies power to the output buffers within the I/O bank.", AA18 VCCO_2 (power) "Supplies power to the output buffers within the I/O bank.", B5 VCCO_0 (power) "Supplies power to the output buffers within the I/O bank.", B10 VCCO_0 (power) "Supplies power to the output buffers within the I/O bank.", B14 VCCO_0 (power) "Supplies power to the output buffers within the I/O bank.", B18 VCCO_0 (power) "Supplies power to the output buffers within the I/O bank.", D12 VCCAUX (power) "Dedicated auxiliary power supply pin.", E2 VCCO_3 (power) "Supplies power to the output buffers within the I/O bank.", E5 VCCAUX (power) "Dedicated auxiliary power supply pin.", E18 VCCAUX (power) "Dedicated auxiliary power supply pin.", E21 VCCO_1 (power) "Supplies power to the output buffers within the I/O bank.", F9 VCCO_0 (power) "Supplies power to the output buffers within the I/O bank.", F14 VCCO_0 (power) "Supplies power to the output buffers within the I/O bank.", H11 VCCAUX (power) "Dedicated auxiliary power supply pin.", J2 VCCO_3 (power) "Supplies power to the output buffers within the I/O bank.", J6 VCCO_3 (power) "Supplies power to the output buffers within the I/O bank.", J10 VCCINT (power) "Dedicated internal core logic power supply pin.", J12 VCCINT (power) "Dedicated internal core logic power supply pin.", J17 VCCO_1 (power) "Supplies power to the output buffers within the I/O bank.", K9 VCCINT (power) "Dedicated internal core logic power supply pin.", K11 VCCINT (power) "Dedicated internal core logic power supply pin.", K13 VCCINT (power) "Dedicated internal core logic power supply pin.", K21 VCCO_1 (power) "Supplies power to the output buffers within the I/O bank.", L4 VCCAUX (power) "Dedicated auxiliary power supply pin.", L10 VCCINT (power) "Dedicated internal core logic power supply pin.", L12 VCCINT (power) "Dedicated internal core logic power supply pin.", L14 VCCINT (power) "Dedicated internal core logic power supply pin.", M9 VCCINT (power) "Dedicated internal core logic power supply pin.", M11 VCCINT (power) "Dedicated internal core logic power supply pin.", M13 VCCINT (power) "Dedicated internal core logic power supply pin.", M19 VCCAUX (power) "Dedicated auxiliary power supply pin.", N2 VCCO_3 (power) "Supplies power to the output buffers within the I/O bank.", N10 VCCINT (power) "Dedicated internal core logic power supply pin.", N12 VCCINT (power) "Dedicated internal core logic power supply pin.", N14 VCCINT (power) "Dedicated internal core logic power supply pin.", P6 VCCO_3 (power) "Supplies power to the output buffers within the I/O bank.", P11 VCCAUX (power) "Dedicated auxiliary power supply pin.", P13 VCCINT (power) "Dedicated internal core logic power supply pin.", P17 VCCO_1 (power) "Supplies power to the output buffers within the I/O bank.", P21 VCCO_1 (power) "Supplies power to the output buffers within the I/O bank.", U9 VCCO_2 (power) "Supplies power to the output buffers within the I/O bank.", U14 VCCO_2 (power) "Supplies power to the output buffers within the I/O bank.", V2 VCCO_3 (power) "Supplies power to the output buffers within the I/O bank.", V5 VCCAUX (power) "Dedicated auxiliary power supply pin.", V18 VCCAUX (power) "Dedicated auxiliary power supply pin.", V21 VCCO_1 (power) "Supplies power to the output buffers within the I/O bank.", W11 VCCAUX (power) "Dedicated auxiliary power supply pin."
part H pins: A1 GND (power) "Dedicated ground pin.", A22 GND (power) "Dedicated ground pin.", AA7 GND (power) "Dedicated ground pin.", AA11 GND (power) "Dedicated ground pin.", AA16 GND (power) "Dedicated ground pin.", AB1 GND (power) "Dedicated ground pin.", AB22 GND (power) "Dedicated ground pin.", B7 GND (power) "Dedicated ground pin.", B12 GND (power) "Dedicated ground pin.", B16 GND (power) "Dedicated ground pin.", C3 GND (power) "Dedicated ground pin.", C20 GND (power) "Dedicated ground pin.", D9 GND (power) "Dedicated ground pin.", D14 GND (power) "Dedicated ground pin.", F6 GND (power) "Dedicated ground pin.", F11 GND (power) "Dedicated ground pin.", F17 GND (power) "Dedicated ground pin.", G2 GND (power) "Dedicated ground pin.", G21 GND (power) "Dedicated ground pin.", J4 GND (power) "Dedicated ground pin.", J9 GND (power) "Dedicated ground pin.", J11 GND (power) "Dedicated ground pin.", J13 GND (power) "Dedicated ground pin.", J14 GND (power) "Dedicated ground pin.", J19 GND (power) "Dedicated ground pin.", K10 GND (power) "Dedicated ground pin.", K12 GND (power) "Dedicated ground pin.", L2 GND (power) "Dedicated ground pin.", L6 GND (power) "Dedicated ground pin.", L9 GND (power) "Dedicated ground pin.", L11 GND (power) "Dedicated ground pin.", L13 GND (power) "Dedicated ground pin.", L17 GND (power) "Dedicated ground pin.", M10 GND (power) "Dedicated ground pin.", M12 GND (power) "Dedicated ground pin.", M14 GND (power) "Dedicated ground pin.", M21 GND (power) "Dedicated ground pin.", N11 GND (power) "Dedicated ground pin.", N13 GND (power) "Dedicated ground pin.", P4 GND (power) "Dedicated ground pin.", P9 GND (power) "Dedicated ground pin.", P10 GND (power) "Dedicated ground pin.", P14 GND (power) "Dedicated ground pin.", P19 GND (power) "Dedicated ground pin.", T2 GND (power) "Dedicated ground pin.", T12 GND (power) "Dedicated ground pin.", T21 GND (power) "Dedicated ground pin.", U6 GND (power) "Dedicated ground pin.", U17 GND (power) "Dedicated ground pin.", W10 GND (power) "Dedicated ground pin.", W14 GND (power) "Dedicated ground pin.", Y3 GND (power) "Dedicated ground pin.", Y20 GND (power) "Dedicated ground pin."
part A text: BANK 0
part B text: BANK 1
part C text: BANK 2
part D text: BANK 3

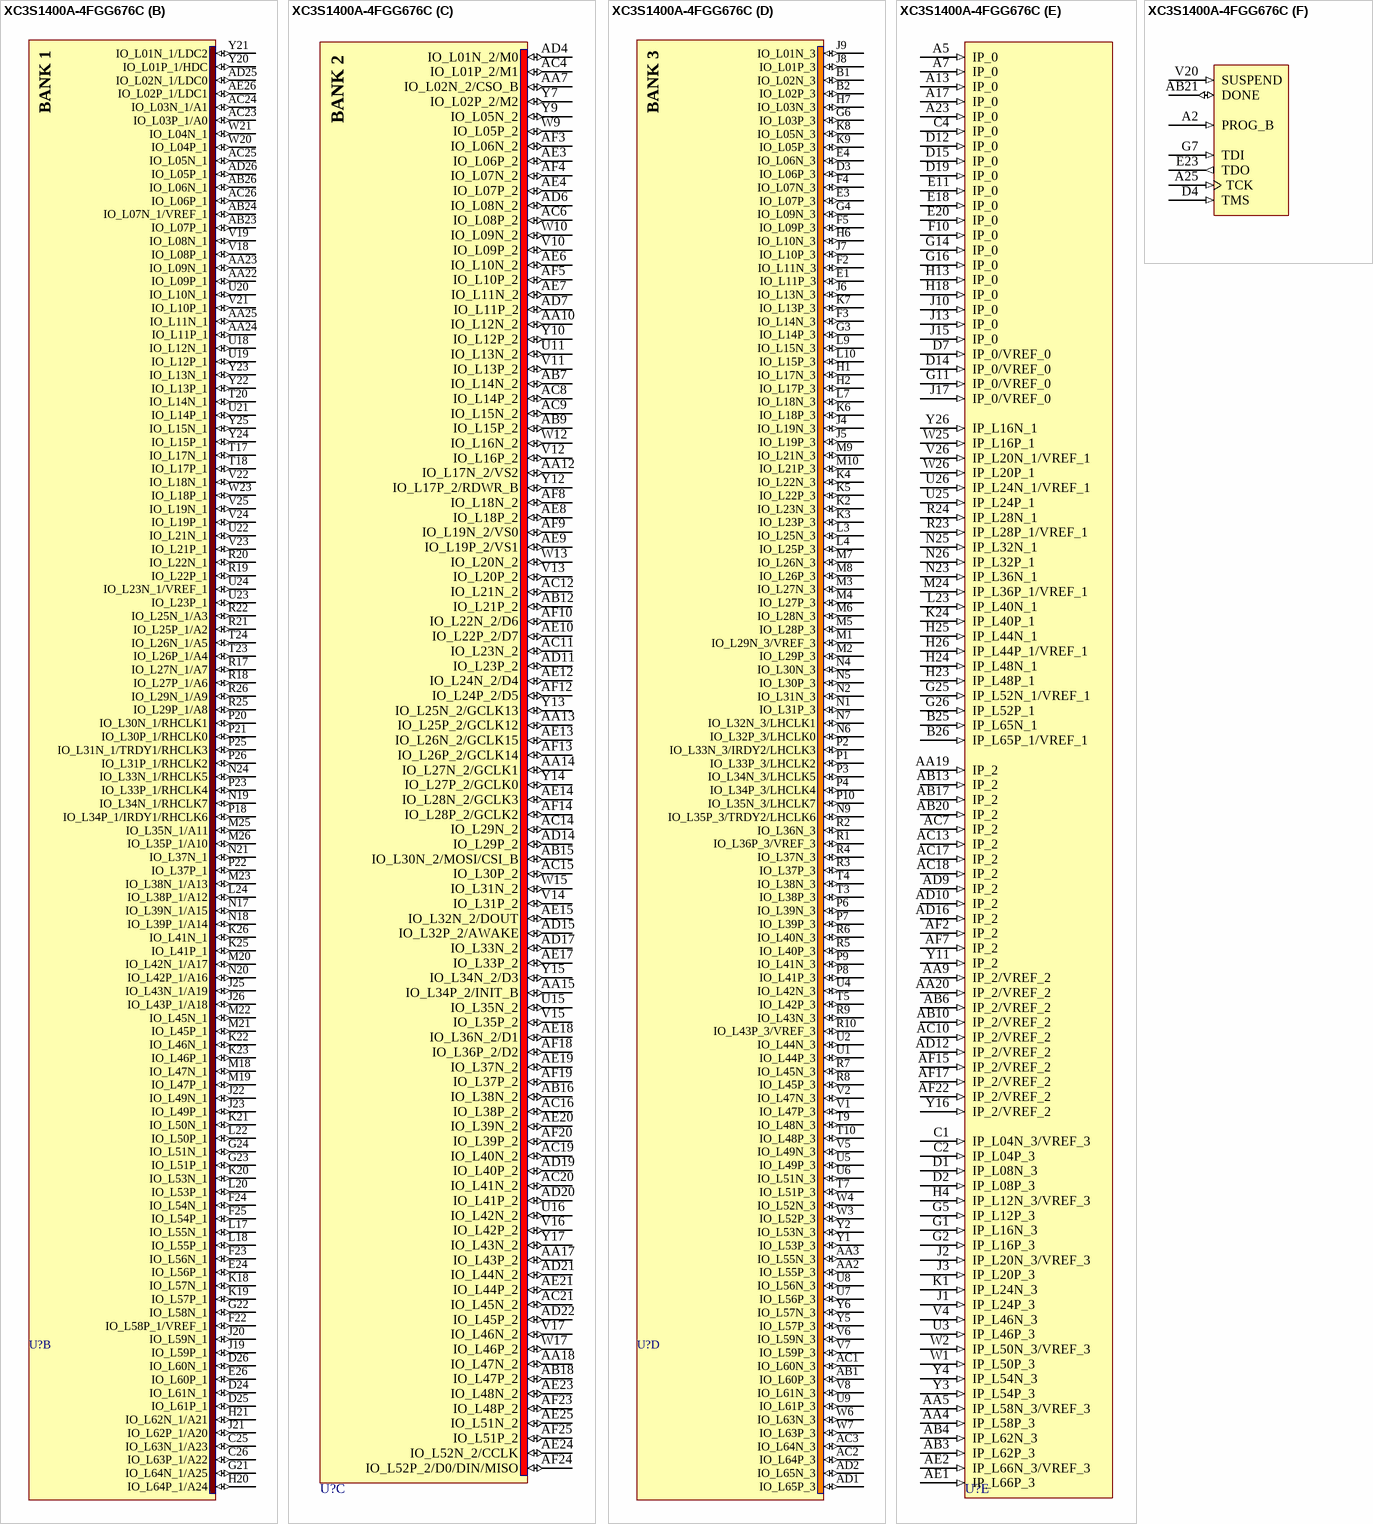
[diagram p83: symbol XC3S1400A-4FGG676C]

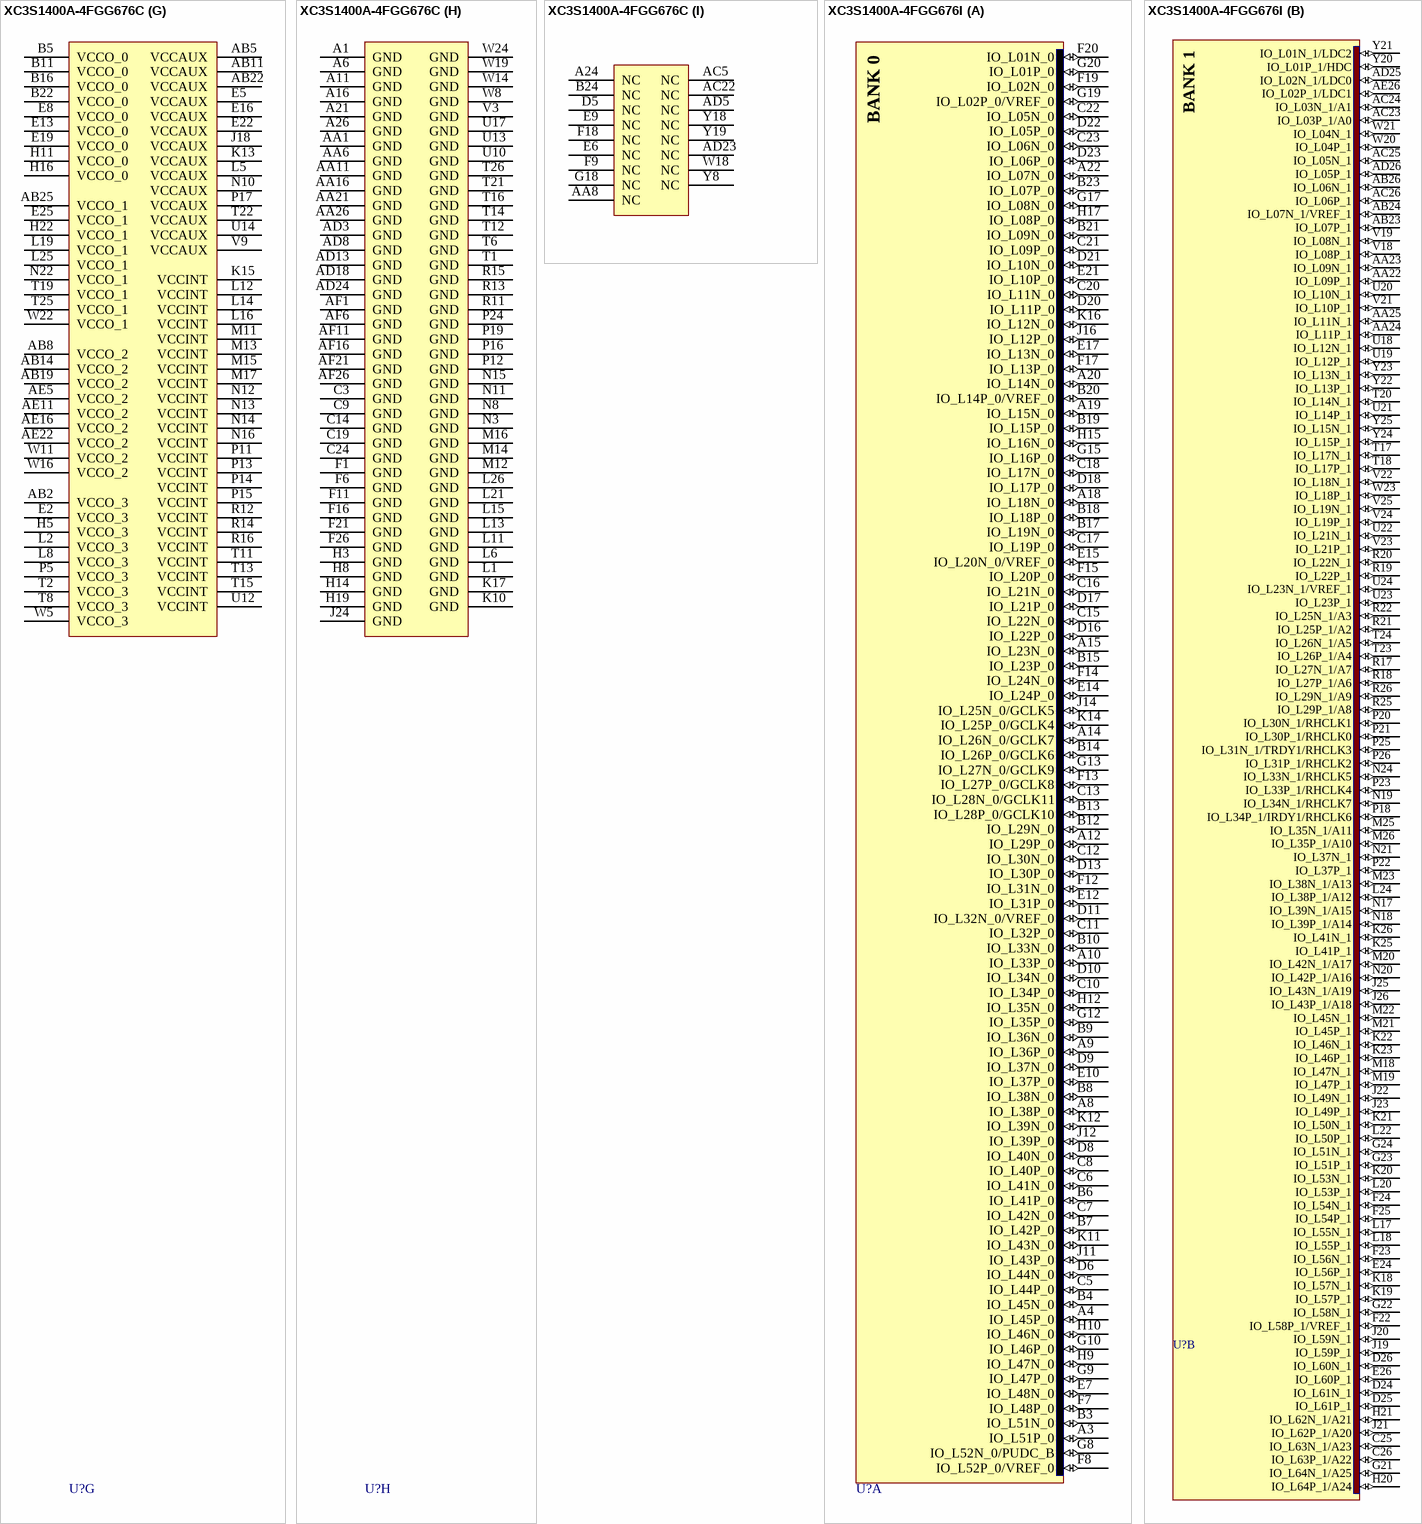
[diagram p84: symbols XC3S1400A-4FGG676C to XC3S1400A-4FGG676I]